# EAGLE library part P_MOS_2CH (library Eagle_CAD_parts)
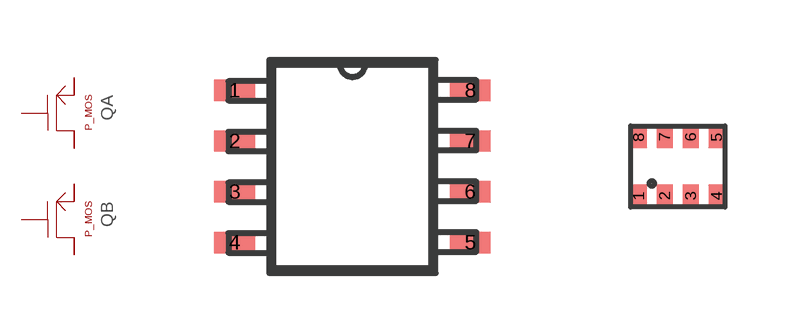
[diagram p41: symbol with the pads of 8-SO; footprints 8-SO, 1206-8_CHIP_FET]

Designator prefix Q; gates A=P_MOS B=P_MOS

## P_MOS_2CH_DMP3085LSD (DIGIKEY_PART_NUMBER: DMP3085LSD-13DICT-ND)  [8-SO]
1  A:S  pas
2  A:G  pas
3  B:S  pas
4  B:G  pas
5  B:D  pas
6  B:D  pas
7  A:D  pas
8  A:D  pas

## P_MOS_2CH_SI5935CDC (DIGIKEY_PART_NUMBER: SI5935CDC-T1-GE3CT-ND)  [1206-8_CHIP_FET]
Pads as for 8-SO

## P_MOS_2CH_NDS9948 (DIGIKEY_PART_NUMBER: NDS9948CT-ND; ID: 2.3 A; MANUFACTURER_PART_NUMBER: NDS9948; P_MAX: 900 mW; VDSS: 60 V)  [8-SO]
1  B:S  pas
2  B:G  pas
3  A:S  pas
4  A:G  pas
5  A:D  pas
6  A:D  pas
7  B:D  pas
8  B:D  pas

## Footprint 8-SO (pad centres in mm)
smd 1.016 x 0.533: 1 -2.946,1.905; 2 -2.946,0.635; 3 -2.946,-0.635; 4 -2.946,-1.905; 5 2.946,-1.905; 6 2.946,-0.635; 7 2.946,0.635; 8 2.946,1.905

## Footprint 1206-8_CHIP_FET (pad centres in mm)
smd 0.406 x 0.559: 1 -0.975,-0.736; 2 -0.326,-0.736; 3 0.325,-0.737; 4 0.975,-0.737; 5 0.974,0.735; 6 0.325,0.735; 7 -0.327,0.736; 8 -0.976,0.736